# EAGLE library part SWD-HEADER (library arm-pro-mini)
PIN HEADER
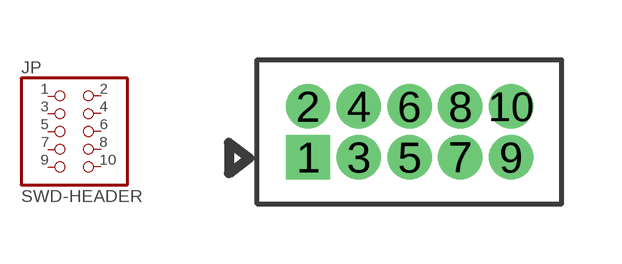
[diagram p1: symbol with the pads of SWD-HEADER; footprint SWD-HEADER]

Designator prefix JP

## SWD-HEADER  [SWD-HEADER]
1  1  pas
2  2  pas
3  3  pas
4  4  pas
5  5  pas
6  6  pas
7  7  pas
8  8  pas
9  9  pas
10  10  pas

## Footprint SWD-HEADER (pad centres in mm)
PIN HEADER
drill 0.6 pad 0.991 square: 1 -2.54,-0.635
drill 0.6 pad 0.991: 2 -2.54,0.635; 3 -1.27,-0.635; 4 -1.27,0.635; 5 0,-0.635; 6 0,0.635; 7 1.27,-0.635; 8 1.27,0.635; 9 2.54,-0.635; 10 2.54,0.635